# Altium schematic symbol library SCH - INTERFACE - CAN - INFINEON TLE9250XSJXUMA1 PG-DSO-8.SchLib: 1 symbol
Pins are listed as number, name and electrical type; pins without a type are passive.

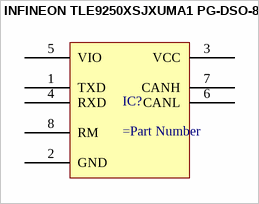
[diagram p0: symbol INFINEON TLE9250XSJXUMA1 PG-DSO-8]

## INFINEON TLE9250XSJXUMA1 PG-DSO-8
designator IC?
pins: 1 TXD, 2 GND, 3 VCC, 4 RXD, 5 VIO, 6 CANL, 7 CANH, 8 RM